# Altium integrated library board.IntLib: 3 symbols
Pins are listed as number, name and electrical type; pins without a type are passive.

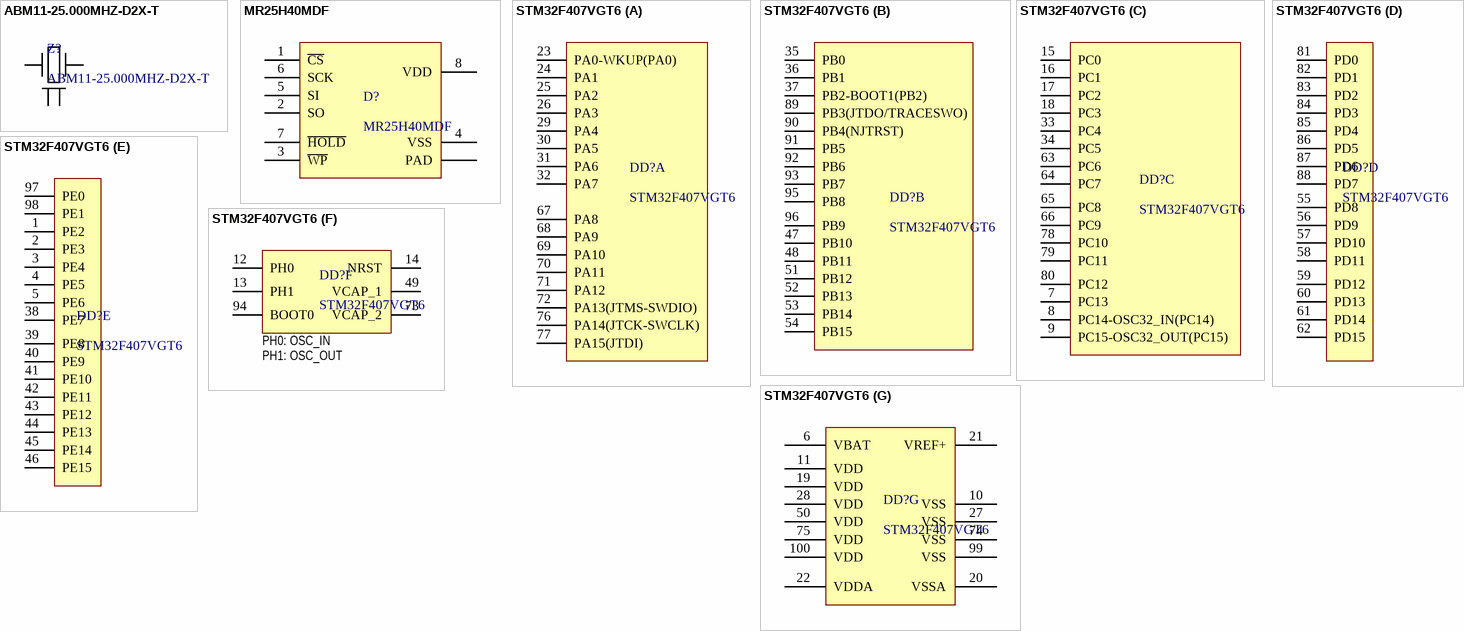
[diagram p0: symbols ABM11-25.000MHZ-D2X-T to STM32F407VGT6]

## ABM11-25.000MHZ-D2X-T
designator Z?
Crystal 25MHz ±20ppm (Tol) ±20ppm (Stability) 10pF FUND 100Ohm 4-Pin Ultra Mini-CSMD T/R; Manufacturer: Abracon; Supplier 1: https://www.chipdip.ru/product0/8009921874; Supplier Part Number: ABM11-25.000MHZ-D2X-T; Manufacturer Part Number: ABM11-25.000MHZ-D2X-T; RoHS: No; Category: Crystals and Oscillators; Stock: 4570; Pricing: 259=0,3855, 500=0,3667, 1000=0,363, 2000=0,3516, 5000=0,3277 (USD); ComponentLink1URL: https://datasheet.octopart.com/ABM11-25.000MHZ-D2X-T-Abracon-datasheet-12518431.pdf?src-supplier=Sager+Electronics; ComponentLink1Description: https://datasheet.octopart.com/ABM11-25.000MHZ-D2X-T-Abracon-datasheet-12518431.pdf?src-supplier=Sager+Electronics
footprint ABM11
pins: 1 OSC1, 2, 3 OSC2, 4

## MR25H40MDF
designator D?
MR25H40 Series 4 Mb (512K x 8) 3.6 V Surface Mount SPI Interface MRAM - DFN-8; Manufacturer: Everspin; Supplier 1: https://www.chipdip.ru/product0/8004742567; Supplier Part Number: MR25H40MDF; Manufacturer Part Number: MR25H40MDF; RoHS: Yes; Category: Memory; Stock: 260; Pricing: 1=33,95, 10=31,58, 25=29,7, 50=26,33, 100=25,47, 250=25,22 (USD); ComponentLink1URL: http://www.mouser.com/ds/2/144/EST00459_MR2xH40_Datasheet_Rev12.3%20020217-365063.pdf?src-supplier=Mouser; ComponentLink1Description: http://www.mouser.com/ds/2/144/EST00459_MR2xH40_Datasheet_Rev12.3%20020217-365063.pdf?src-supplier=Mouser; ComponentLink2URL: https://datasheet.octopart.com/MR25H40MDF-Everspin-datasheet-74388538.pdf?src-supplier=Future+Electronics; ComponentLink2Description: https://datasheet.octopart.com/MR25H40MDF-Everspin-datasheet-74388538.pdf?src-supplier=Future+Electronics; ComponentLink3URL: http://everspin.com/PDF/EST_MR25H40_prod.pdf?src-supplier=Digikey; ComponentLink3Description: http://everspin.com/PDF/EST_MR25H40_prod.pdf?src-supplier=Digikey; ComponentLink4URL: https://www.everspin.com/file/156640/download?src-supplier=Digikey; ComponentLink4Description: https://www.everspin.com/file/156640/download?src-supplier=Digikey; ComponentLink5URL: https://datasheet.octopart.com/MR25H40MDF-Everspin-datasheet-103531305.pdf?src-supplier=SHENGYU+ELECTRONICS; ComponentLink5Description: https://datasheet.octopart.com/MR25H40MDF-Everspin-datasheet-103531305.pdf?src-supplier=SHENGYU+ELECTRONICS
footprint DFN-8
pins: 1 ~{CS}, 2 SO, 3 ~{WP}, 4 VSS, 5 SI, 6 SCK, 7 ~{HOLD}, 8 VDD, PAD

## STM32F407VGT6
designator DD?
MCU 32-bit STM32F ARM Cortex M4F RISC 1024KB Flash 2.5V/3.3V 100-Pin LQFP Tray; Manufacturer: STMicroelectronics; Number of UART Channels: 2; Max Supply Voltage: 3.6V; Min Supply Voltage: 1.8V; Number of SPI Channels: 3; Interface: I2C,SPI,USB,CAN,Ethernet,IrDA,UART,USART,LIN,EBI/EMI,I2S; Number of Timers/Counters: 14; RAM Size: 196KB; Number of ADC Channels: 16; Number of Ethernet Channels: 1; Data Bus Width: 32b; Nominal Supply Current: 1.7uA; Number of A/D Converters: 3NUMBER; Number of Channels: 16NUMBER; Number of D/A Converters: 2NUMBER; Number of USB Channels: 1NUMBER; Number of I/Os: 82; Frequency: 168MHz; Oscillator Type: Internal; Watchdog Timer: Yes; Peripherals: Brown-out Detect/Reset,POR,PWM,WDT,DMA,LCD,I2C; Supplier 1: https://www.chipdip.ru/product/stm32f407vgt6; Supplier Part Number: 7468226; Manufacturer Part Number: STM32F407VGT6; RoHS: Yes; Category: Microcontrollers; Stock: 813; Pricing: 1=10,95, 10=10,07, 25=9,66, 100=8,5, 250=8,28 (GBP); Case/Package: LQFP; Pins: 100; Min Operating Temperature: -40°C; Max Operating Temperature: 85°C; Number of I2C Channels: 3; Packaging: Tray; Memory Format: FLASH; Memory Size: 1024KB; Core Architecture: ARM; Package Quantity: 90; Number of PWM Channels: 2; Number of Programmable I/O: 82; Clock Frequency: 168MHz; Address Bus Width: 32b; Series: STM32 F4; Length: 14.2mm; Width: 14.2mm; Height: 1.45mm; Radiation Hardening: No; Lead Free: Lead Free; Reach SVHC Compliant: No; RoHS Compliant: Yes; ComponentLink1URL: https://datasheet.ciiva.com/14132/stm32f407vgt6-tds-eng-14132567.pdf?src-supplier=Distrelec; ComponentLink1Description: https://datasheet.ciiva.com/14132/stm32f407vgt6-tds-eng-14132567.pdf?src-supplier=Distrelec; ComponentLink2URL: https://datasheet.ciiva.com/4842/dm00037051-492832-4842280.pdf?src-supplier=Mouser; ComponentLink2Description: https://datasheet.ciiva.com/4842/dm00037051-492832-4842280.pdf?src-supplier=Mouser; ComponentLink3URL: https://datasheet.ciiva.com/48687/001075599-da-01-en-mcu-32bt-1mb-stm32f407vgt6-lqfp-100-stm-48687547.pdf?src-supplier=Conrad; ComponentLink3Description: https://datasheet.ciiva.com/48687/001075599-da-01-en-mcu-32bt-1mb-stm32f407vgt6-lqfp-100-stm-48687547.pdf?src-supplier=Conrad
footprint LQFP-100
part A pins: 23 PA0-WKUP(PA0) (power), 24 PA1 (power), 25 PA2 (power), 26 PA3 (power), 29 PA4 (power), 30 PA5 (power), 31 PA6 (power), 32 PA7 (power), 67 PA8 (power), 68 PA9 (power), 69 PA10 (power), 70 PA11 (power), 71 PA12 (power), 72 PA13(JTMS-SWDIO) (power), 76 PA14(JTCK-SWCLK) (power), 77 PA15(JTDI) (power)
part B pins: 35 PB0 (power), 36 PB1 (power), 37 PB2-BOOT1(PB2) (power), 47 PB10 (power), 48 PB11 (power), 51 PB12 (power), 52 PB13 (power), 53 PB14 (power), 54 PB15 (power), 89 PB3(JTDO/TRACESWO) (power), 90 PB4(NJTRST) (power), 91 PB5 (power), 92 PB6 (power), 93 PB7 (power), 95 PB8 (power), 96 PB9 (power)
part C pins: 7 PC13 (power), 8 PC14-OSC32_IN(PC14) (power), 9 PC15-OSC32_OUT(PC15) (power), 15 PC0 (power), 16 PC1 (power), 17 PC2 (power), 18 PC3 (power), 33 PC4 (power), 34 PC5 (power), 63 PC6 (power), 64 PC7 (power), 65 PC8 (power), 66 PC9 (power), 78 PC10 (power), 79 PC11 (power), 80 PC12 (power)
part D pins: 55 PD8 (power), 56 PD9 (power), 57 PD10 (power), 58 PD11 (power), 59 PD12 (power), 60 PD13 (power), 61 PD14 (power), 62 PD15 (power), 81 PD0 (power), 82 PD1 (power), 83 PD2 (power), 84 PD3 (power), 85 PD4 (power), 86 PD5 (power), 87 PD6 (power), 88 PD7 (power)
part E pins: 1 PE2 (power), 2 PE3 (power), 3 PE4 (power), 4 PE5 (power), 5 PE6 (power), 38 PE7 (power), 39 PE8 (power), 40 PE9 (power), 41 PE10 (power), 42 PE11 (power), 43 PE12 (power), 44 PE13 (power), 45 PE14 (power), 46 PE15 (power), 97 PE0 (power), 98 PE1 (power)
part F pins: 12 PH0 (power), 13 PH1 (power), 14 NRST (power), 49 VCAP_1 (power), 73 VCAP_2 (power), 94 BOOT0 (power)
part G pins: 6 VBAT, 10 VSS, 11 VDD, 19 VDD, 20 VSSA, 21 VREF+, 22 VDDA, 27 VSS, 28 VDD, 50 VDD, 74 VSS, 75 VDD, 99 VSS, 100 VDD
part F text: PH0: OSC_IN; PH1: OSC_OUT